# Altium footprint library Altium Example Master PCB Library End.PcbLib: 217 footprints (part 4 of 14)
Each footprint in its own frame and in the unit in brackets; x right, y up, seen from the top. Pads: shape width x height; smd on the part's side, far side on the other; paste and mask are expansions set on the pad; w line width, h text height; cw(c..) or ccw(c..) is an arc to the next point about the centre after c.
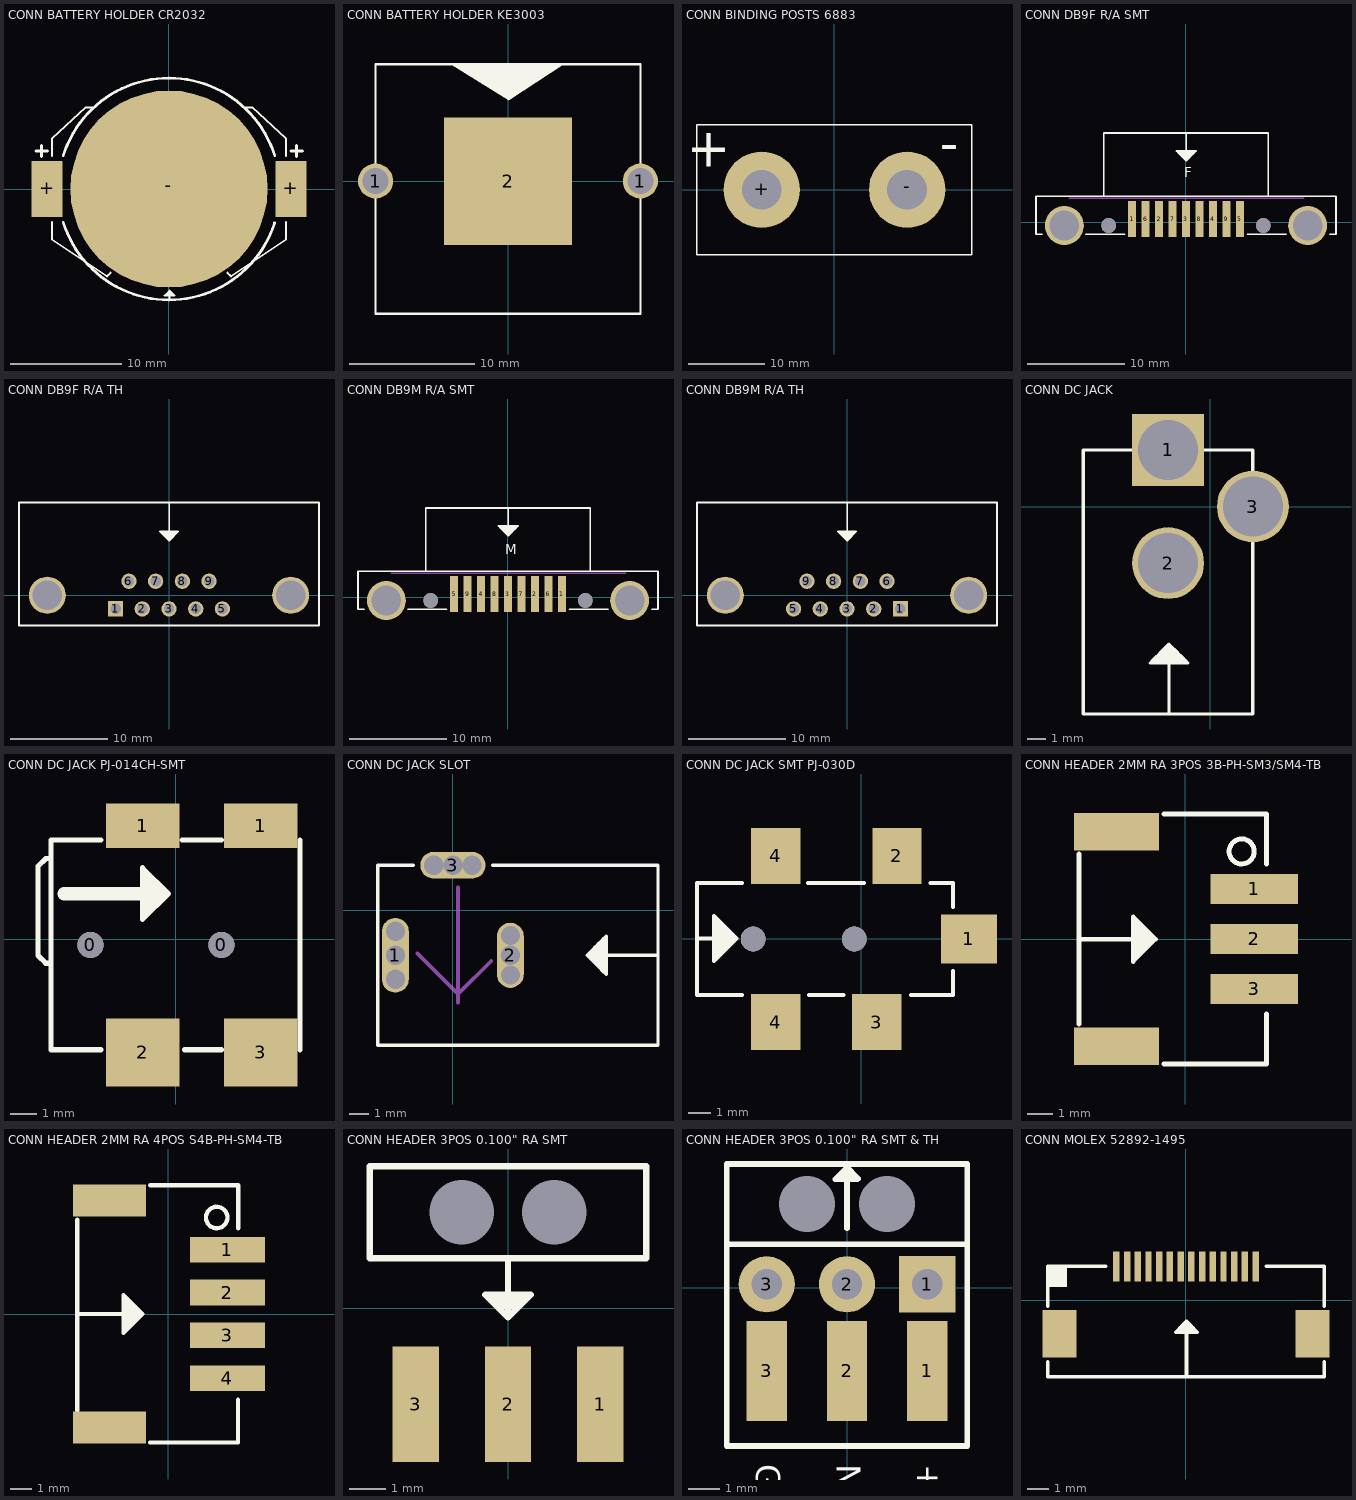
[diagram p3: the footprints below, top view; thin cyan lines are the x and y axes]

## CONN BATTERY HOLDER CR2032 [mm]
pads (3):
  rect 2.79x5.08 smd: +(-10.985,0) +(10.985,0)
  round 17.78 smd: -(0,0)
Top Overlay:
  lines w0.178: -10.54,-2.962 -10.54,-4.575 -5.59,-7.875 -5.265,-7.55 ; -10.54,2.962 -10.54,4.575 -7.49,7.365 -6.775,7.365 ; -0.228,-9.448 0.228,-9.448 0.25,-9.47 ; 0.05,-9.918 0.05,-9.195 ; 5.265,-7.55 5.59,-7.875 10.54,-4.575 10.54,-2.962 ; 6.775,7.365 7.49,7.365 10.54,4.575 10.54,2.962 ; -0.4,-9.62 0.5,-9.62 0.05,-9.17 -0.4,-9.62
  lines w0.254: -9.535,3.014 cw(c0,0) 9.536,3.011 ; -9.532,-3.025 ccw(c0,0) 9.526,-3.041
  lines w0.3: -11.99,3.425 -10.99,3.425 ; -11.49,2.925 -11.49,3.925 ; 11,3.425 12,3.425 ; 11.5,2.925 11.5,3.925

## CONN BATTERY HOLDER KE3003 [mil]
pads (3):
  round 110 hole 82: 1(-415.5,0) 1(415.5,0)
  rect 400x400 smd: 2(0,0)
Top Overlay:
  region: -179.28,366 1.82,253.29 175.05,366
  lines w7: -415.5,-416 -415.5,366 415.5,366 415.5,-416 -415.5,-416

## CONN BINDING POSTS 6883 [mm]
pads (2):
  round 10 hole 5.207: +(-9.525,0) -(9.525,0)
Top Overlay:
  lines w0.178: -18,-8.5 -18,8.5 18,8.5 18,-8.5 -18,-8.5
  text "-" at 16.3,3.7 h5
  text "+" at -13.6,3 h5
Bottom Overlay:
  lines w0.178: -18,-8.5 18,-8.5 18,8.5 -18,8.5 -18,-8.5
  text "+" at -13.625,2.95 h5
  text "-" at 16.275,3.65 h5

## CONN DB9F R/A SMT [mm]
pads (13):
  rect 0.8x3.7 smd: 1(-5.54,0.325) 2(-2.77,0.325) 3(0,0.325) 4(2.77,0.325) 5(5.54,0.325) 6(-4.155,0.325) 7(-1.385,0.325) 8(1.385,0.325) 9(4.155,0.325)
  round 4 hole 3.05: ""(-12.495,-0.325) ""(12.495,-0.325)
  round 1.5 hole 1.5 unplated: ""(-7.95,-0.325) ""(7.95,-0.325)
Top Overlay:
  lines w0.178: -14.75,-1.225 -15.405,-1.225 -15.405,2.675 15.405,2.675 15.405,-1.225 14.75,-1.225 ; -10.275,-1.225 -6.325,-1.225 ; -8.46,2.69 -8.46,9.175 8.46,9.175 8.46,2.69 ; -0.758,7.108 -0.625,6.975 0.675,6.975 0.85,7.15 ; -0.624,6.974 -0.45,6.8 0.45,6.8 0.275,6.625 -0.275,6.625 -0.41,6.76 ; 0.025,9.075 0.025,6.325 ; 6.325,-1.225 10.275,-1.225 ; -0.975,7.325 -0.8,7.15 0.85,7.15 ; -0.975,7.325 1.025,7.325 ; -0.975,7.325 0.025,6.325 ; 0.025,6.325 1.025,7.325 ; 0.85,7.15 1.025,7.325
  text "F" at -0.2,4.625 h1
Mechanical 1:
  lines w0.178: -11.975,2.475 12.075,2.475
Mechanical 2:
  text "BOARD EDGE" at -8.65,2.025 h0.2

## CONN DB9F R/A TH [mil]
pads (11):
  rect 62x62 hole 42: 1(-216,-56)
  round 62 hole 42: 2(-108,-56) 3(0,-56) 4(108,-56) 5(216,-56) 6(-162,56) 7(-54,56) 8(54,56) 9(162,56)
  round 150 hole 120: ""(-492,-1) ""(492,-1)
Top Overlay:
  lines w7: -33.91,256.99 -28.01,251.09 ; 0.54,374 0.54,219.59 ; 6.44,229.43 -6.35,229.43 -10.29,233.37 ; 11.36,233.37 -10.29,233.37 ; 17.27,239.28 -16.2,239.28 ; 25.14,245.18 -22.1,245.18 ; 29.08,251.09 -28.01,251.09 ; -28.01,251.09 -22.1,245.18 ; -22.1,245.18 -16.2,239.28 ; -16.2,239.28 -10.29,233.37 ; 0.54,219.59 -36.87,256.99 37.94,256.99 0.54,219.59
  lines w8: -606.5,-123 -606.5,374 606.5,374 606.5,-123 -606.5,-123

## CONN DB9M R/A SMT [mm]
pads (13):
  rect 0.8x3.7 smd: 1(5.54,0.325) 2(2.77,0.325) 3(0,0.325) 4(-2.77,0.325) 5(-5.54,0.325) 6(4.155,0.325) 7(1.385,0.325) 8(-1.385,0.325) 9(-4.155,0.325)
  round 4 hole 3.05: ""(-12.495,-0.325) ""(12.495,-0.325)
  round 1.5 hole 1.5 unplated: ""(-7.95,-0.325) ""(7.95,-0.325)
Top Overlay:
  lines w0.178: -14.75,-1.225 -15.405,-1.225 -15.405,2.675 15.405,2.675 15.405,-1.225 14.75,-1.225 ; -10.275,-1.225 -6.325,-1.225 ; -8.46,2.69 -8.46,9.175 8.46,9.175 8.46,2.69 ; -0.758,7.108 -0.625,6.975 0.675,6.975 0.85,7.15 ; -0.624,6.974 -0.45,6.8 0.45,6.8 0.275,6.625 -0.275,6.625 -0.41,6.76 ; 0.025,9.075 0.025,6.325 ; 6.325,-1.225 10.275,-1.225 ; -0.975,7.325 -0.8,7.15 0.85,7.15 ; -0.975,7.325 1.025,7.325 ; -0.975,7.325 0.025,6.325 ; 0.025,6.325 1.025,7.325 ; 0.85,7.15 1.025,7.325
  text "M" at -0.275,4.45 h1
Mechanical 1:
  lines w0.178: -11.975,2.475 12.075,2.475
Mechanical 2:
  text "BOARD EDGE" at -8.65,2.025 h0.2

## CONN DB9M R/A TH [mil]
pads (11):
  rect 62x62 hole 42: 1(216,-56)
  round 62 hole 42: 2(108,-56) 3(0,-56) 4(-108,-56) 5(-216,-56) 6(162,56) 7(54,56) 8(-54,56) 9(-162,56)
  round 150 hole 120: ""(-492,-1) ""(492,-1)
Top Overlay:
  lines w7: -33.91,256.99 -28.01,251.09 ; 0.54,374 0.54,219.59 ; 6.44,229.43 -6.35,229.43 -10.29,233.37 ; 11.36,233.37 -10.29,233.37 ; 17.27,239.28 -16.2,239.28 ; 25.14,245.18 -22.1,245.18 ; 29.08,251.09 -28.01,251.09 ; -28.01,251.09 -22.1,245.18 ; -22.1,245.18 -16.2,239.28 ; -16.2,239.28 -10.29,233.37 ; 0.54,219.59 -36.87,256.99 37.94,256.99 0.54,219.59
  lines w8: -606.5,-123 -606.5,374 606.5,374 606.5,-123 -606.5,-123

## CONN DC JACK [mm]
pads (3):
  rect 3.81x3.81 hole 3.175: 1(-2.25,3)
  round 3.81 hole 3.175: 2(-2.25,-3) 3(2.25,0)
Top Overlay:
  lines w0.178: -2.2,-11 -2.2,-7.3 ; -1.765,-7.735 -1.9,-7.6 -2.45,-7.6 -2.625,-7.775 -1.725,-7.775 -1.551,-7.949 ; -1.417,-8.083 -1.55,-7.95 -2.85,-7.95 -3.025,-8.125 ; -3.2,-8.3 -3.025,-8.125 ; -3.2,-8.3 -2.2,-7.3 ; -3.2,-8.3 -1.2,-8.3 ; -3.025,-8.125 -1.375,-8.125 -1.2,-8.3 ; -2.2,-7.3 -1.2,-8.3 ; -6.75,-11 -6.75,3 2.25,3 2.25,-11 -6.75,-11

## CONN DC JACK PJ-014CH-SMT [mm]
pads (6):
  round 1 hole 1 unplated: 0(-3.25,-0.225) 0(1.75,-0.225)
  rect 2.8x1.7 smd: 1(-1.25,4.325) 1(3.25,4.325)
  rect 2.8x2.6 smd: 2(-1.25,-4.325) 3(3.25,-4.325)
Top Overlay:
  region: -1.261,2.728 -0.311,1.728 -1.261,0.728 -1.261,2.628
  lines w0.178: -4.261,1.728 -0.261,1.728 ; -0.261,1.728 -1.261,0.728 -1.261,2.728 -0.261,1.728
  lines w0.2: -4.75,-0.925 -4.95,-0.925 -5.25,-0.625 -5.25,1.075 -5.25,2.775 -4.95,3.075 -4.75,3.075 ; -2.85,-4.225 -4.75,-4.225 -4.75,-3.025 -4.75,-0.225 -4.75,3.475 -4.75,3.775 -2.85,3.775 ; 0.25,3.775 1.75,3.775 ; 0.35,-4.225 1.75,-4.225 ; 4.75,-4.225 4.75,3.775 ; 4.75,-3.025 4.75,3.475
  lines w0.508: -4.261,1.728 -1.161,1.728

## CONN DC JACK SLOT [mm]
pads (3):
  oval 1.4x3.9 hole 1: 1(-3,-2.35)
  oval 1.4x3.4 hole 1: 2(3,-2.35)
  oval 3.4x1.4 hole 1: 3(0,2.35)
via -1,2.35 diameter 1 hole 1
via 1,2.35 diameter 1 hole 1
via -3,-1.1 diameter 1 hole 1
via -3,-3.6 diameter 1 hole 1
via 3,-1.325 diameter 1 hole 1
via 3,-3.375 diameter 1 hole 1
Top Overlay:
  lines w0.178: -2.075,2.35 -3.925,2.35 -3.925,-7.05 10.7,-7.05 10.7,2.35 2.075,2.35 ; 7.435,-1.915 7.3,-2.05 7.3,-2.6 7.475,-2.775 7.475,-1.875 7.649,-1.701 ; 7.783,-1.567 7.65,-1.7 7.65,-3 7.825,-3.175 ; 10.7,-2.35 7,-2.35 ; 7,-2.35 8,-3.35 ; 7,-2.35 8,-1.35 ; 7.825,-3.175 8,-3.35 ; 7.825,-3.175 7.825,-1.525 8,-1.35 ; 8,-3.35 8,-1.35
Mechanical 1:
  lines w1: -3,-3.6 -3,-1.1 ; -1,2.35 1,2.35 ; 3,-3.375 3,-1.325
Mechanical 5:
  lines w0.2: -1.85,-2.25 0.275,-4.375 ; 0.275,-4.825 0.275,-4.375 ; 0.275,1.2 0.275,-4.375 ; 2,-2.65 0.275,-4.375
  text "Plated slots d=1.0mm (x3)" at -7.05,-6.65 h2.54

## CONN DC JACK SMT PJ-030D [mm]
pads (7):
  rect 2.5x2.2 smd: 1(4.8,0)
  rect 2.2x2.5 smd: 2(1.6,3.7) 3(0.7,-3.7) 4(-3.8,-3.7) 4(-3.8,3.7)
  round 1.1 hole 1.1 unplated: ""(-4.8,0) ""(-0.3,0)
Top Overlay:
  lines w0.178: -7.25,0.025 -5.55,0.025 ; -6.333,-0.758 -6.2,-0.625 -6.2,0.675 -6.375,0.85 ; -6.199,-0.624 -6.025,-0.45 -6.025,0.45 -5.85,0.275 -5.85,-0.275 -5.985,-0.41 ; -5.3,-2.5 -7.3,-2.5 -7.3,2.5 -5.3,2.5 ; -2.35,2.5 0.125,2.5 ; -2.325,-2.5 -0.775,-2.5 ; 2.225,-2.5 4.1,-2.5 4.1,-1.425 ; 3.1,2.5 4.1,2.5 4.1,1.425 ; -6.55,-0.975 -6.375,-0.8 -6.375,0.85 ; -6.55,-0.975 -6.55,1.025 ; -6.55,-0.975 -5.55,0.025 ; -6.55,1.025 -6.375,0.85 ; -6.55,1.025 -5.55,0.025

## CONN HEADER 2MM RA 3POS 3B-PH-SM3/SM4-TB [mm]
pads (5):
  rect 3.5x1.2 smd: 1(2.753,2.002) 2(2.753,0.002) 3(2.753,-1.998)
  rect 3.4x1.5 smd: ""(-2.753,-4.3) ""(-2.753,4.3)
Top Overlay:
  circle w0.2: c2.253,3.502 r0.5
  region: -2.091,0.898 -1.191,-0.002 -2.091,-0.902
  lines w0.178: -4.253,-0.002 -1.191,-0.002 ; -1.191,-0.002 -2.091,0.898 -2.091,-0.902 -1.191,-0.002
  lines w0.2: -4.253,-3.4 -4.253,3.4 ; -0.853,-5 -0.851,-4.998 3.253,-4.998 3.253,-2.998 ; -0.851,5.002 3.253,5.002 3.253,3.002

## CONN HEADER 2MM RA 4POS S4B-PH-SM4-TB [mm]
pads (6):
  rect 3.5x1.2 smd: 1(2.753,3.002) 2(2.753,1.002) 3(2.753,-0.998) 4(2.747,-3)
  rect 3.4x1.5 smd: ""(-2.753,-5.3) ""(-2.753,5.3)
Top Overlay:
  circle w0.2: c2.253,4.502 r0.5
  region: -2.1,0.9 -1.2,0 -2.1,-0.9
  lines w0.178: -4.262,0 -1.2,0 ; -1.2,0 -2.1,-0.9 -2.1,0.9 -1.2,0
  lines w0.2: -4.253,-4.5 -4.253,-2.4 -4.253,4.4 ; -0.857,-6 3.247,-6 3.247,-4 ; -0.851,6.002 3.253,6.002 3.253,4.002

## CONN HEADER 3POS 0.100" RA SMT [mil]
pads (5):
  rect 50x125 smd: 1(100,-104) 2(0,-104) 3(-100,-104)
  round 60 hole 70 unplated: ""(-50,104) ""(50,104)
Top Overlay:
  lines w7: -5.41,2.46 12.3,2.46 8.86,5.91 -15.75,5.91 -15.75,9.84 19.68,9.84 24.61,14.76 ; 0,54 0,-9.84 ; 0,-9.84 -24.61,14.76 24.61,14.76 ; 0,-9.84 24.61,14.76 ; -150,54 -150,154 150,154 150,54 -150,54

## CONN HEADER 3POS 0.100" RA SMT & TH [mil]
pads (8):
  rect 50x125 smd: 1(100,-104) 2(0,-104) 3(-100,-104)
  rect 70x70 hole 38: 1(100,4)
  round 70 hole 38: 2(0,4) 3(-100,4)
  round 60 hole 70 unplated: ""(-50,104) ""(50,104)
Top Overlay:
  lines w7: -5.91,139.76 7.87,139.76 12.8,134.84 -14.76,134.84 0,149.61 0,154 0,73.82 ; -5.41,2.46 12.3,2.46 8.86,5.91 -15.75,5.91 -15.75,9.84 19.68,9.84 24.61,14.76 ; -0.98,150.59 13.78,135.83 ; -150,154 -150,54 150,54 150,154 ; -150,154 150,154 ; -150,154 -150,-197.54 150,-197.54 150,154 ; 24.61,14.76 -24.61,14.76 0,-9.84 24.61,14.76
  text "GND" at -113.19,-220 h30
  text "+5V" at 87.6,-220 h30
  text "NTC" at -12.8,-220 h30
Bottom Overlay:
  lines w7: -5.91,139.76 7.87,139.76 12.8,134.84 -14.76,134.84 0,149.61 14.76,134.84 ; 0,73.82 0,154 ; -150,154 -150,-197.54 150,-197.54 150,154 ; -150,154 150,154 ; -150,154 -150,54 150,54 150,154
  text "NTC" at -14.57,-134.07 h30
  text "+5V" at 85.43,-134.07 h30
  text "GND" at -114.57,-134.07 h30

## CONN MOLEX 52892-1495 [mm]
pads (16):
  rect 0.3x1.4 smd mask+0.051: 1(-3.25,1.575) 2(-2.75,1.575) 3(-2.25,1.575) 4(-1.75,1.575) 5(-1.25,1.575) 6(-0.75,1.575) 7(-0.25,1.575) 8(0.25,1.575) 9(0.75,1.575) 10(1.25,1.575) 11(1.75,1.575) 12(2.25,1.575) 13(2.75,1.575) 14(3.25,1.575)
  rect 1.6x2.2 smd: ""(-5.9,-1.575) ""(5.9,-1.575)
Top Overlay:
  rectangle: -6.45,0.6 -5.55,1.575
  lines w0.178: -6.45,-2.875 -6.45,-3.575 6.45,-3.575 6.45,-2.875 ; -6.45,-0.275 -6.45,1.575 -3.75,1.575 ; -0.363,-1.388 0.263,-1.388 ; -0.278,-1.303 0.328,-1.303 ; 0.025,-3.575 0.025,-1 ; 3.75,1.575 6.45,1.575 6.45,-0.275 ; 0.025,-1 -0.475,-1.5 0.525,-1.5 0.025,-1